# Altium integrated library NXP_60_26022015.IntLib: 1306 symbols (part 26 of 28)
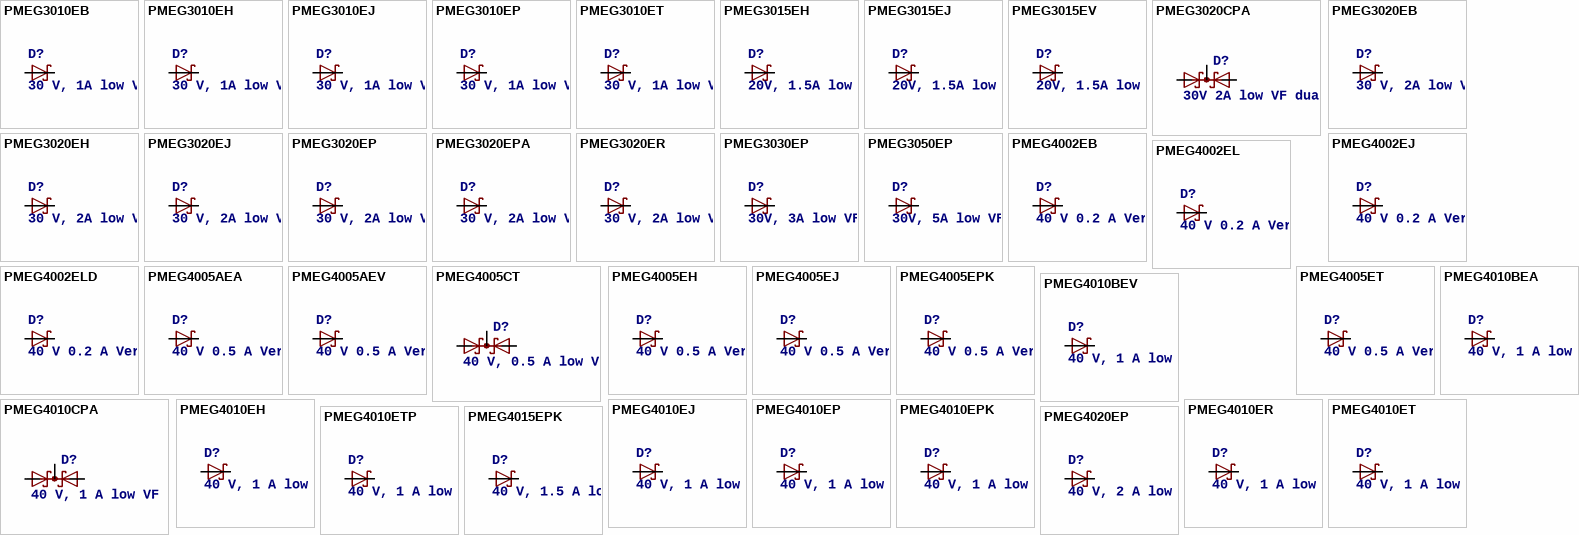
[diagram p210: symbols PMEG3010EB to PMEG4020EP]

## PMEG4002EB
designator D?, comment 40 V 0.2 A Very low VF MEGA Schottky barrier rectifier  Planar Maximum Efficiency General Application (MEGA) Schottky barrier rectifier with an integrated guard ring for stress protection, encapsulated in a SOD323 (SC-76) very small SMD plastic packag   AAL Eindhoven MK
footprint SOD523
pins: 1 K, 2 A

## PMEG4002EJ
designator D?, comment 40 V 0.2 A Very low VF MEGA Schottky barrier rectifier  Planar Maximum Efficiency General Application (MEGA) Schottky barrier rectifier with an integrated guard ring for stress protection, encapsulated in a SOD323 (SC-76) very small SMD plastic packag   AAL Eindhoven MK
footprint SOD323(F)
pins: 1 K, 2 A

## PMEG4002EL
designator D?, comment 40 V 0.2 A Very low VF MEGA Schottky barrier rectifier  Planar Maximum Efficiency General Application (MEGA) Schottky barrier rectifier with an integrated guard ring for stress protection, encapsulated in a SOD323 (SC-76) very small SMD plastic packag   AAL Eindhoven MK
footprint SOD882(T)
pins: 1 K, 2 A

## PMEG4002ELD
designator D?, comment 40 V 0.2 A Very low VF MEGA Schottky barrier rectifier  Planar Maximum Efficiency General Application (MEGA) Schottky barrier rectifier with an integrated guard ring for stress protection, encapsulated in a SOD323 (SC-76) very small SMD plastic packag   AAL Eindhoven MK
footprint SOD882D
pins: 1 K, 2 A

## PMEG4005AEA
designator D?, comment 40 V 0.5 A Very low VF MEGA Schottky barrier rectifier  Planar Maximum Efficiency General Application (MEGA) Schottky barrier rectifier with an integrated guard ring for stress protection, encapsulated in a SOD323 (SC-76) very small SMD plastic packag   AAL Eindhoven MK
footprint SOD323(F)
pins: 1 K, 2 A

## PMEG4005AEV
designator D?, comment 40 V 0.5 A Very low VF MEGA Schottky barrier rectifier  Planar Maximum Efficiency General Application (MEGA) Schottky barrier rectifier with an integrated guard ring for stress protection, encapsulated in a SOD323 (SC-76) very small SMD plastic packag   AAL Eindhoven MK
footprint SOT666
pins: 1 2 5 6 K, 3 4 A

## PMEG4005CT
designator D?, comment 40 V, 0.5 A low VF MEGA Schottky barrier rectifier  Planar Maximum Efficiency General Application (MEGA) Schottky barrier rectifier with an integrated guard ring for stress protection, encapsulated in a leadless ultra small SOD1608 (DFN1608D-2) Surface-Mounted Device (SMD) plastic package with visible and solderable side pads     AAL Eindhoven MK
footprint SOT23
pins: 1 A1, 2 A2, 3 K1K2

## PMEG4005EH
designator D?, comment 40 V 0.5 A Very low VF MEGA Schottky barrier rectifier  Planar Maximum Efficiency General Application (MEGA) Schottky barrier rectifier with an integrated guard ring for stress protection, encapsulated in a SOD323 (SC-76) very small SMD plastic packag   AAL Eindhoven MK
footprint SOD123F
pins: 1 K, 2 A

## PMEG4005EJ
designator D?, comment 40 V 0.5 A Very low VF MEGA Schottky barrier rectifier  Planar Maximum Efficiency General Application (MEGA) Schottky barrier rectifier with an integrated guard ring for stress protection, encapsulated in a SOD323 (SC-76) very small SMD plastic packag   AAL Eindhoven MK
footprint SOD323(F)
pins: 1 K, 2 A

## PMEG4005EPK
designator D?, comment 40 V 0.5 A Very low VF MEGA Schottky barrier rectifier  Planar Maximum Efficiency General Application (MEGA) Schottky barrier rectifier with an integrated guard ring for stress protection, encapsulated in a SOD323 (SC-76) very small SMD plastic packag   AAL Eindhoven MK
footprint SOD1608
pins: 1 K, 2 A

## PMEG4005ET
designator D?, comment 40 V 0.5 A Very low VF MEGA Schottky barrier rectifier  Planar Maximum Efficiency General Application (MEGA) Schottky barrier rectifier with an integrated guard ring for stress protection, encapsulated in a SOD323 (SC-76) very small SMD plastic packag   AAL Eindhoven MK
footprint SOT23
pins: 1 A, 3 K

## PMEG4010BEA
designator D?, comment 40 V, 1 A low VF MEGA Schottky barrier rectifier  Planar Maximum Efficiency General Application (MEGA) Schottky barrier rectifier with an integrated guard ring for stress protection.     AAL Eindhoven MK
footprint SOD323(F)
pins: 1 K, 2 A

## PMEG4010BEV
designator D?, comment 40 V, 1 A low VF MEGA Schottky barrier rectifier  Planar Maximum Efficiency General Application (MEGA) Schottky barrier rectifier with an integrated guard ring for stress protection.     AAL Eindhoven MK
footprint SOT666
pins: 1 2 5 6 K, 3 4 A

## PMEG4010CPA
designator D?, comment 40 V, 1 A low VF MEGA Schottky barrier rectifier  Planar Maximum Efficiency General Application (MEGA) Schottky barrier rectifier with an integrated guard ring for stress protection, encapsulated in a leadless ultra small SOD1608 (DFN1608D-2) Surface-Mounted Device (SMD) plastic package with visible and solderable side pads     AAL Eindhoven MK
footprint SOT1061
pins: 1 A1, 2 A2, 3 K1K2

## PMEG4010EH
designator D?, comment 40 V, 1 A low VF MEGA Schottky barrier rectifier  Planar Maximum Efficiency General Application (MEGA) Schottky barrier rectifier with an integrated guard ring for stress protection.     AAL Eindhoven MK
footprint SOD123F
pins: 1 K, 2 A

## PMEG4010EJ
designator D?, comment 40 V, 1 A low VF MEGA Schottky barrier rectifier  Planar Maximum Efficiency General Application (MEGA) Schottky barrier rectifier with an integrated guard ring for stress protection.     AAL Eindhoven MK
footprint SOD323(F)
pins: 1 K, 2 A

## PMEG4010EP
designator D?, comment 40 V, 1 A low VF MEGA Schottky barrier rectifier  Planar Maximum Efficiency General Application (MEGA) Schottky barrier rectifier with an integrated guard ring for stress protection.     AAL Eindhoven MK
footprint SOD128
pins: 1 K, 2 A

## PMEG4010EPK
designator D?, comment 40 V, 1 A low VF MEGA Schottky barrier rectifier  Planar Maximum Efficiency General Application (MEGA) Schottky barrier rectifier with an integrated guard ring for stress protection.     AAL Eindhoven MK
footprint SOD1608
pins: 1 K, 2 A

## PMEG4010ER
designator D?, comment 40 V, 1 A low VF MEGA Schottky barrier rectifier  Planar Maximum Efficiency General Application (MEGA) Schottky barrier rectifier with an integrated guard ring for stress protection.     AAL Eindhoven MK
footprint SOD123W
pins: 1 K, 2 A

## PMEG4010ET
designator D?, comment 40 V, 1 A low VF MEGA Schottky barrier rectifier  Planar Maximum Efficiency General Application (MEGA) Schottky barrier rectifier with an integrated guard ring for stress protection.     AAL Eindhoven MK
footprint SOT23
pins: 1 A, 3 K

## PMEG4010ETP
designator D?, comment 40 V, 1 A low VF MEGA Schottky barrier rectifier  Planar Maximum Efficiency General Application (MEGA) Schottky barrier rectifier with an integrated guard ring for stress protection.     AAL Eindhoven MK
footprint SOD128
pins: 1 K, 2 A

## PMEG4015EPK
designator D?, comment 40 V, 1.5 A low VF MEGA Schottky barrier rectifier  Planar Maximum Efficiency General Application (MEGA) Schottky barrier rectifier with an integrated guard ring for stress protection, encapsulated in a leadless ultra small SOD1608 (DFN1608D-2) Surface-Mounted Device (SMD) plastic package with visible and solderable side pads     AAL Eindhoven MK
footprint SOD1608
pins: 1 K, 2 A

## PMEG4020EP
designator D?, comment 40 V, 2 A low VF MEGA Schottky barrier rectifier  Planar Maximum Efficiency General Application (MEGA) Schottky barrier rectifier with an integrated guard ring for stress protection.     AAL Eindhoven MK
footprint SOD128
pins: 1 K, 2 A

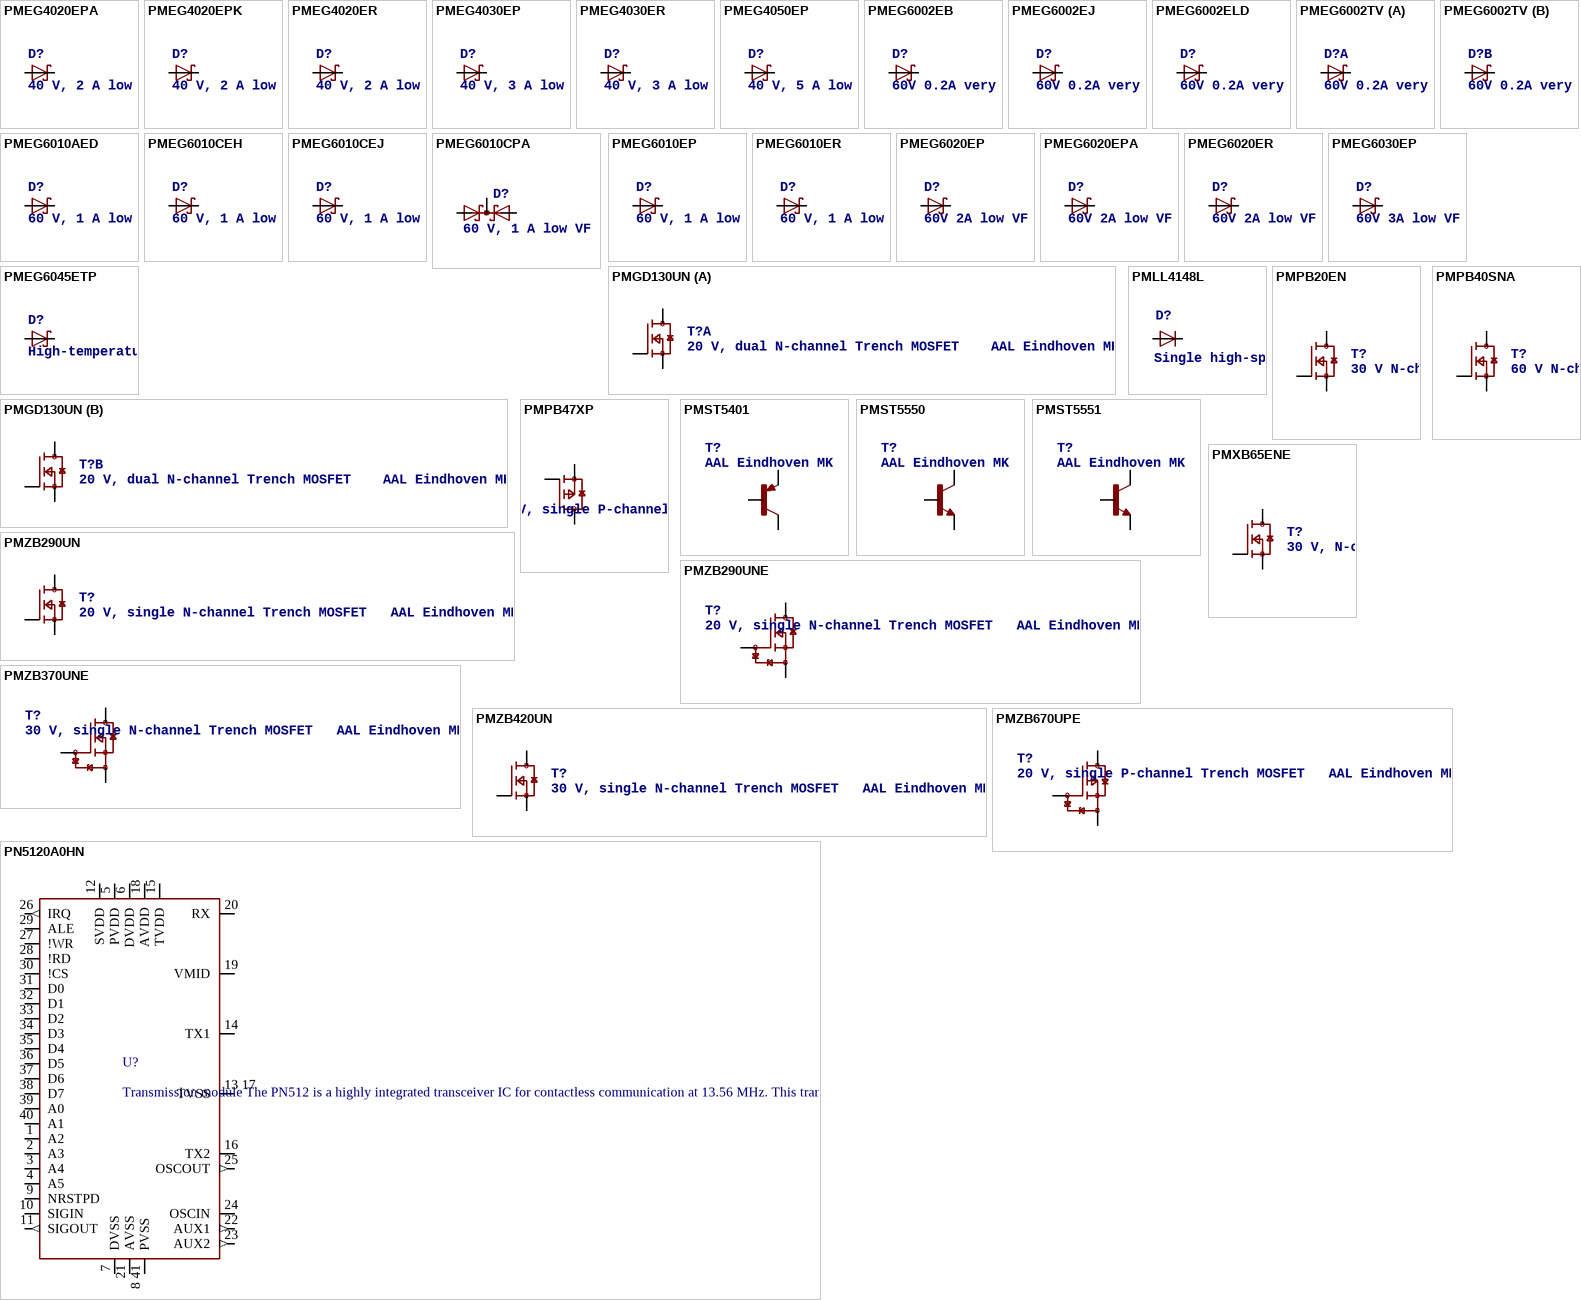
[diagram p171: symbols PMEG4020EPA to PN5120A0HN]

## PMEG4020EPA
designator D?, comment 40 V, 2 A low VF MEGA Schottky barrier rectifier  Planar Maximum Efficiency General Application (MEGA) Schottky barrier rectifier with an integrated guard ring for stress protection.     AAL Eindhoven MK
footprint SOT1061
pins: 1 2 A, 3 K

## PMEG4020EPK
designator D?, comment 40 V, 2 A low VF MEGA Schottky barrier rectifier  Planar Maximum Efficiency General Application (MEGA) Schottky barrier rectifier with an integrated guard ring for stress protection.     AAL Eindhoven MK
footprint SOD1608
pins: 1 K, 2 A

## PMEG4020ER
designator D?, comment 40 V, 2 A low VF MEGA Schottky barrier rectifier  Planar Maximum Efficiency General Application (MEGA) Schottky barrier rectifier with an integrated guard ring for stress protection.     AAL Eindhoven MK
footprint SOD123W
pins: 1 K, 2 A

## PMEG4030EP
designator D?, comment 40 V, 3 A low VF MEGA Schottky barrier rectifier  Planar Maximum Efficiency General Application (MEGA) Schottky barrier rectifier with an integrated guard ring for stress protection.     AAL Eindhoven MK
footprint SOD128
pins: 1 K, 2 A

## PMEG4030ER
designator D?, comment 40 V, 3 A low VF MEGA Schottky barrier rectifier  Planar Maximum Efficiency General Application (MEGA) Schottky barrier rectifier with an integrated guard ring for stress protection.     AAL Eindhoven MK
footprint SOD123W
pins: 1 K, 2 A

## PMEG4050EP
designator D?, comment 40 V, 5 A low VF MEGA Schottky barrier rectifier  Planar Maximum Efficiency General Application (MEGA) Schottky barrier rectifier with an integrated guard ring for stress protection.     AAL Eindhoven MK
footprint SOD128
pins: 1 K, 2 A

## PMEG6002EB
designator D?, comment 60V 0.2A very low VF MEGA Schottky barrier recti?ers Planar Maximum Ef?ciency General Application (MEGA) Schottky barrier recti?ers with an integrated guard ring for stress protection, encapsulated in ultra small and ?at lead Surface-Mounted Device (SMD) plastic packages.   AAL Eindhoven MK
footprint SOD523
pins: 1 K, 2 A

## PMEG6002EJ
designator D?, comment 60V 0.2A very low VF MEGA Schottky barrier recti?ers Planar Maximum Ef?ciency General Application (MEGA) Schottky barrier recti?ers with an integrated guard ring for stress protection, encapsulated in ultra small and ?at lead Surface-Mounted Device (SMD) plastic packages.   AAL Eindhoven MK
footprint SOD323(F)
pins: 1 K, 2 A

## PMEG6002ELD
designator D?, comment 60V 0.2A very low VF MEGA Schottky barrier recti?ers Planar Maximum Ef?ciency General Application (MEGA) Schottky barrier recti?ers with an integrated guard ring for stress protection, encapsulated in ultra small and ?at lead Surface-Mounted Device (SMD) plastic packages.   AAL Eindhoven MK
footprint SOD882D
pins: 1 K, 2 A

## PMEG6002TV
designator D?, comment 60V 0.2A very low VF MEGA Schottky barrier recti?ers Planar Maximum Ef?ciency General Application (MEGA) Schottky barrier recti?ers with an integrated guard ring for stress protection, encapsulated in ultra small and ?at lead Surface-Mounted Device (SMD) plastic packages.   AAL Eindhoven MK
footprint SOT666
part A pins: 1 A, 6 K
part B pins: 3 K, 4 A

## PMEG6010AED
designator D?, comment 60 V, 1 A low VF MEGA Schottky barrier rectifier  Planar Maximum Efficiency General Application (MEGA) Schottky barrier rectifier with an integrated guard ring for stress protection, encapsulated in a leadless ultra small SOD1608 (DFN1608D-2) Surface-Mounted Device (SMD) plastic package with visible and solderable side pads     AAL Eindhoven MK
footprint SOT457
pins: 1 2 5 6 K, 3 4 A

## PMEG6010CEH
designator D?, comment 60 V, 1 A low VF MEGA Schottky barrier rectifier  Planar Maximum Efficiency General Application (MEGA) Schottky barrier rectifier with an integrated guard ring for stress protection, encapsulated in a leadless ultra small SOD1608 (DFN1608D-2) Surface-Mounted Device (SMD) plastic package with visible and solderable side pads     AAL Eindhoven MK
footprint SOD123F
pins: 1 K, 2 A

## PMEG6010CEJ
designator D?, comment 60 V, 1 A low VF MEGA Schottky barrier rectifier  Planar Maximum Efficiency General Application (MEGA) Schottky barrier rectifier with an integrated guard ring for stress protection, encapsulated in a leadless ultra small SOD1608 (DFN1608D-2) Surface-Mounted Device (SMD) plastic package with visible and solderable side pads     AAL Eindhoven MK
footprint SOD323(F)
pins: 1 K, 2 A

## PMEG6010CPA
designator D?, comment 60 V, 1 A low VF MEGA Schottky barrier rectifier  Planar Maximum Efficiency General Application (MEGA) Schottky barrier rectifier with an integrated guard ring for stress protection, encapsulated in a leadless ultra small SOD1608 (DFN1608D-2) Surface-Mounted Device (SMD) plastic package with visible and solderable side pads     AAL Eindhoven MK
footprint SOT1061
pins: 1 A1, 2 A2, 3 K1K2

## PMEG6010EP
designator D?, comment 60 V, 1 A low VF MEGA Schottky barrier rectifier  Planar Maximum Efficiency General Application (MEGA) Schottky barrier rectifier with an integrated guard ring for stress protection, encapsulated in a leadless ultra small SOD1608 (DFN1608D-2) Surface-Mounted Device (SMD) plastic package with visible and solderable side pads     AAL Eindhoven MK
footprint SOD128
pins: 1 K, 2 A

## PMEG6010ER
designator D?, comment 60 V, 1 A low VF MEGA Schottky barrier rectifier  Planar Maximum Efficiency General Application (MEGA) Schottky barrier rectifier with an integrated guard ring for stress protection, encapsulated in a leadless ultra small SOD1608 (DFN1608D-2) Surface-Mounted Device (SMD) plastic package with visible and solderable side pads     AAL Eindhoven MK
footprint SOD123W
pins: 1 K, 2 A

## PMEG6020EP
designator D?, comment 60V 2A low VF dual MEGA Schottky barrier rectifier  Planar Maximum Efficiency General Application (MEGA) Schottky barrier rectifier in common cathode configuration with an integrated guard ring for stress protection, encapsulated in a SOT1061 leadless small Surface-Mounted Device (SMD) plastic package with medium power capability.    AAL Eindhoven MK
footprint SOD128
pins: 1 K, 2 A

## PMEG6020EPA
designator D?, comment 60V 2A low VF dual MEGA Schottky barrier rectifier  Planar Maximum Efficiency General Application (MEGA) Schottky barrier rectifier in common cathode configuration with an integrated guard ring for stress protection, encapsulated in a SOT1061 leadless small Surface-Mounted Device (SMD) plastic package with medium power capability.    AAL Eindhoven MK
footprint SOT1061
pins: 1 2 A, 3 K

## PMEG6020ER
designator D?, comment 60V 2A low VF dual MEGA Schottky barrier rectifier  Planar Maximum Efficiency General Application (MEGA) Schottky barrier rectifier in common cathode configuration with an integrated guard ring for stress protection, encapsulated in a SOT1061 leadless small Surface-Mounted Device (SMD) plastic package with medium power capability.    AAL Eindhoven MK
footprint SOD123W
pins: 1 K, 2 A

## PMEG6030EP
designator D?, comment 60V 3A low VF dual MEGA Schottky barrier rectifier  Planar Maximum Efficiency General Application (MEGA) Schottky barrier rectifier in common cathode configuration with an integrated guard ring for stress protection, encapsulated in a SOT1061 leadless small Surface-Mounted Device (SMD) plastic package with medium power capability.    AAL Eindhoven MK
footprint SOD128
pins: 1 K, 2 A

## PMEG6045ETP
designator D?, comment High-temperature 60 V, 4.5 A Schottky barrier rectifier Planar Maximum Efficiency General Application (MEGA) Schottky barrier rectifier with an integrated guard ring for stress protection, encapsulated in a SOD128 small and flat lead Surface-Mounted Device (SMD) plastic package.    AAL Eindhoven MK
footprint SOD128
pins: 1 K, 2 A

## PMGD130UN
designator T?, comment 20 V, dual N-channel Trench MOSFET    AAL Eindhoven MK
footprint SOT363
part A pins: 1 S, 2 G, 6 D
part B pins: 3 D, 4 S, 5 G

## PMLL4148L
designator D?, comment Single high-speed switching diodes, fabricated in planar technology, and encapsulated in small hermetically sealed glass SOD80C Surface-Mounted Device (SMD) packages.    AAL Eindhoven MK
FARNELL: 1097176
footprint SOD80C
pins: 1 K, 2 A

## PMPB20EN
designator T?, comment 30 V N-channel Trench MOSFET N-channel enhancement mode Field-Effect Transistor (FET) in a leadless medium power DFN2020MD-6 (SOT1220) Surface-Mounted Device (SMD) plastic package using Trench MOSFET technology.    AAL Eindhoven MK
footprint SOT1220
pins: 1 2 5 6 7 D, 3 G, 4 8 S

## PMPB40SNA
designator T?, comment 60 V N-channel Trench MOSFET N-channel enhancement mode Field-Effect Transistor (FET) in a leadless medium power DFN2020MD-6 (SOT1220) Surface-Mounted Device (SMD) plastic package using Trench MOSFET technology.    AAL Eindhoven MK
footprint SOT1220
pins: 1 2 5 6 7 D, 3 G, 4 8 S

## PMPB47XP
designator T?, comment 30 V, single P-channel Trench MOSFET P-channel enhancement mode Field-Effect Transistor (FET) in a leadless medium power DFN2020MD-6 (SOT1220) Surface-Mounted Device (SMD) plastic package using Trench MOSFET technology.    AAL Eindhoven MK
footprint SOT1220
pins: 1 2 5 6 7 D, 3 G, 4 8 S

## PMST5401
designator T?, comment AAL Eindhoven MK
footprint SOT323
pins: 1 B, 2 E, 3 C

## PMST5550
designator T?, comment AAL Eindhoven MK
footprint SOT323
pins: 1 B, 2 E, 3 C

## PMST5551
designator T?, comment AAL Eindhoven MK
footprint SOT323
pins: 1 B, 2 E, 3 C

## PMXB65ENE
designator T?, comment 30 V, N-channel Trench MOSFET N-channel enhancement mode Field-Effect Transistor (FET) in a leadless ultra small DFN1010D-3 (SOT1215) Surface-Mounted Device (SMD) plastic package using Trench MOSFET technology.    AAL Eindhoven MK
footprint SOT1215
pins: 1 G, 2 S, 3 D

## PMZB290UN
designator T?, comment 20 V, single N-channel Trench MOSFET   AAL Eindhoven MK
footprint SOT883(B)
pins: 1 G, 2 S, 3 D

## PMZB290UNE
designator T?, comment 20 V, single N-channel Trench MOSFET   AAL Eindhoven MK
footprint SOT883(B)
pins: 1 G, 2 S, 3 D

## PMZB370UNE
designator T?, comment 30 V, single N-channel Trench MOSFET   AAL Eindhoven MK
footprint SOT883(B)
pins: 1 G, 2 S, 3 D

## PMZB420UN
designator T?, comment 30 V, single N-channel Trench MOSFET   AAL Eindhoven MK
footprint SOT883(B)
pins: 1 G, 2 S, 3 D

## PMZB670UPE
designator T?, comment 20 V, single P-channel Trench MOSFET   AAL Eindhoven MK
footprint SOT883(B)
pins: 1 G, 2 S, 3 D

## PN5120A0HN
designator U?, comment Transmission module The PN512 is a highly integrated transceiver IC for contactless communication at 13.56 MHz. This transceiver IC utilizes an outstanding modulation and demodulation concept completely integrated for different kinds of contactless communication methods and protocols at 13.56 MHz.     AAL Eindhoven MK
footprint SOT618-1
pins: 1 A2, 2 A3, 3 A4, 4 A5, 5 PVDD (power), 6 DVDD (power), 7 DVSS (power), 8 41 PVSS (power), 9 NRSTPD, 10 SIGIN, 11 SIGOUT (out), 12 SVDD (power), 13 17 TVSS, 14 TX1, 15 TVDD (power), 16 TX2, 18 AVDD (power), 19 VMID, 20 RX, 21 AVSS (power), 22 AUX1 (out), 23 AUX2 (out), 24 OSCIN, 25 OSCOUT (out), 26 IRQ (out), 27 !WR, 28 !RD, 29 ALE, 30 !CS, 31 D0, 32 D1, 33 D2, 34 D3, 35 D4, 36 D5, 37 D6, 38 D7, 39 A0, 40 A1

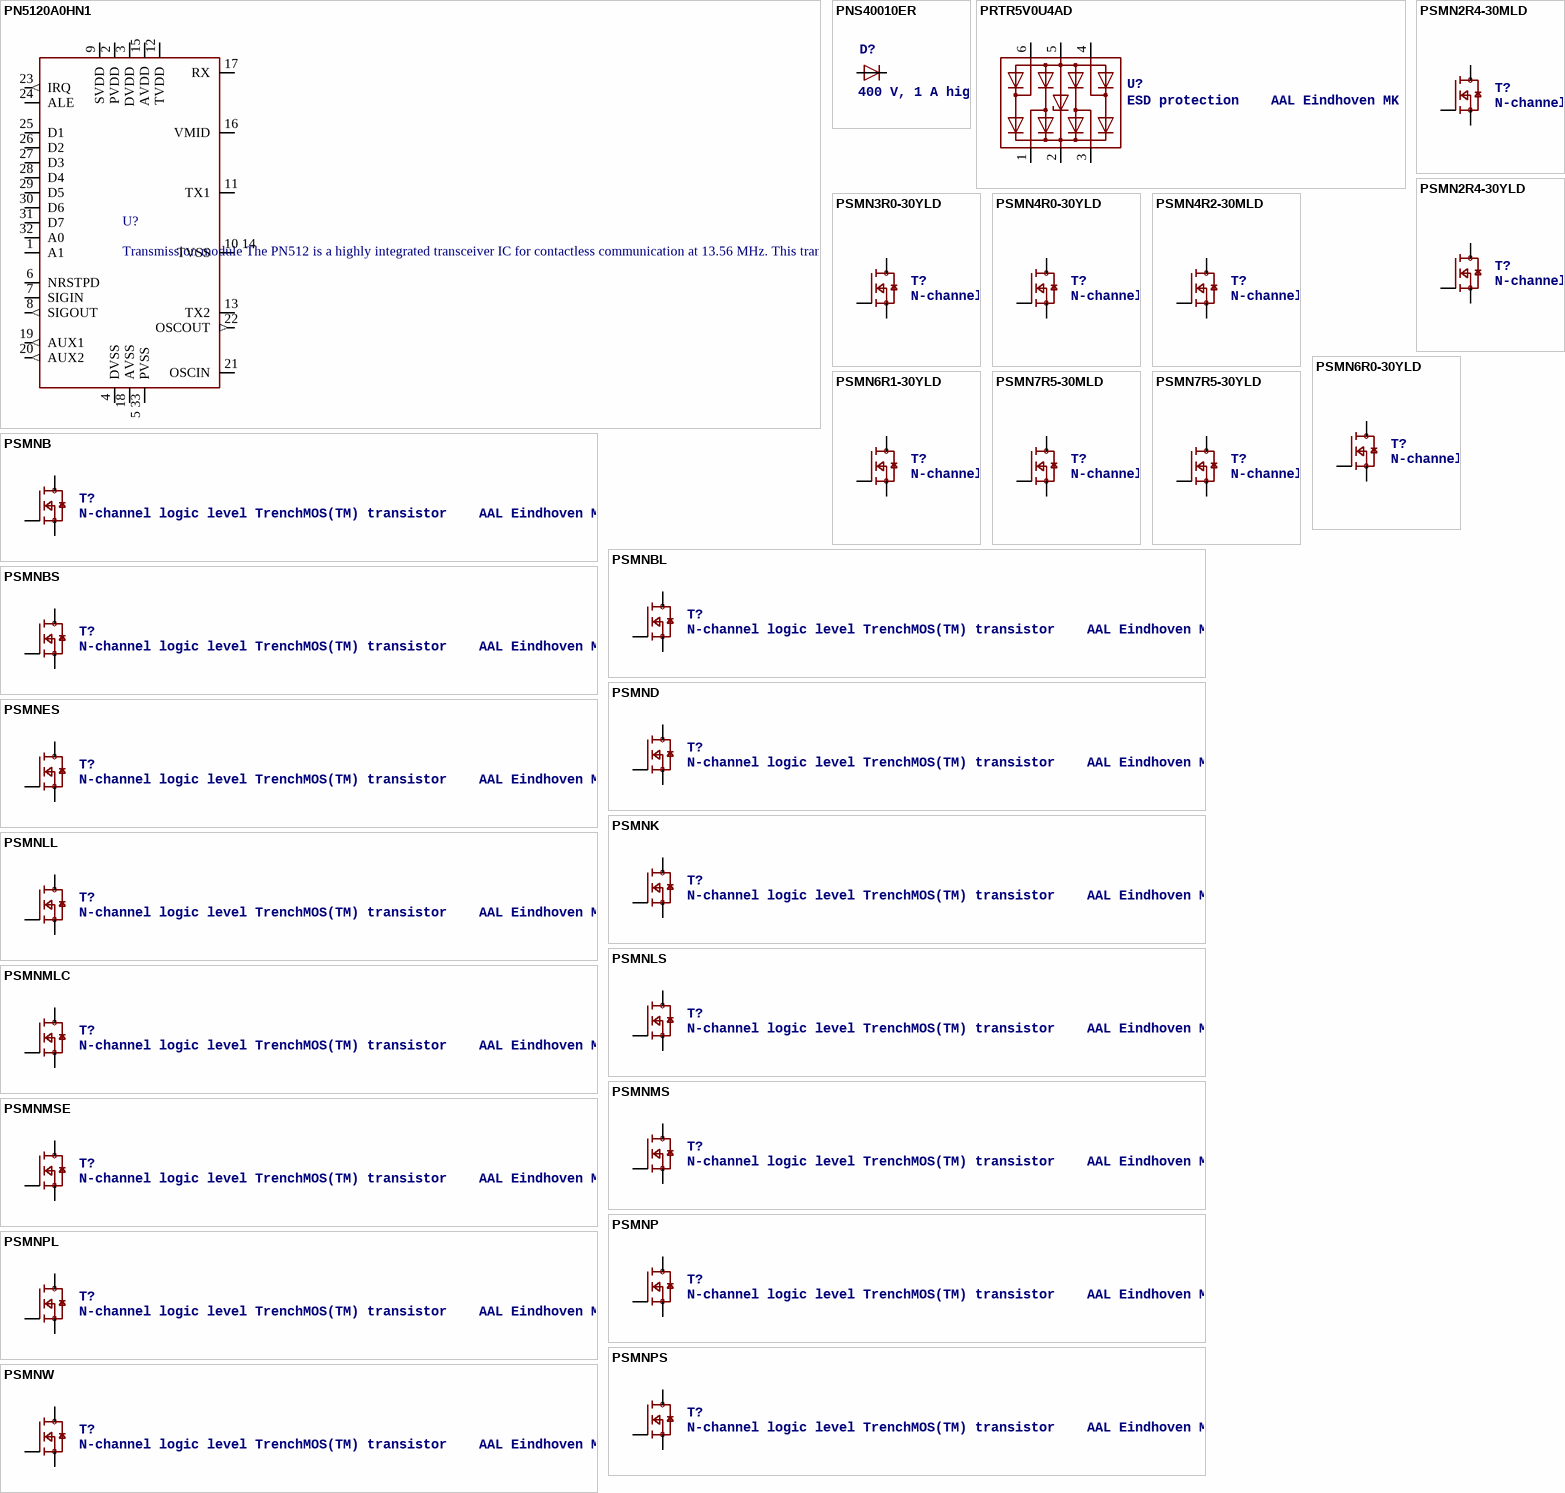
[diagram p172: symbols PN5120A0HN1 to PSMNW]

## PN5120A0HN1
designator U?, comment Transmission module The PN512 is a highly integrated transceiver IC for contactless communication at 13.56 MHz. This transceiver IC utilizes an outstanding modulation and demodulation concept completely integrated for different kinds of contactless communication methods and protocols at 13.56 MHz.     AAL Eindhoven MK
footprint SOT617-1
pins: 1 A1, 2 PVDD (power), 3 DVDD (power), 4 DVSS (power), 5 33 PVSS (power), 6 NRSTPD, 7 SIGIN, 8 SIGOUT (out), 9 SVDD (power), 10 14 TVSS, 11 TX1, 12 TVDD (power), 13 TX2, 15 AVDD (power), 16 VMID, 17 RX, 18 AVSS (power), 19 AUX1 (out), 20 AUX2 (out), 21 OSCIN, 22 OSCOUT (out), 23 IRQ (out), 24 ALE, 25 D1, 26 D2, 27 D3, 28 D4, 29 D5, 30 D6, 31 D7, 32 A0

## PNS40010ER
designator D?, comment 400 V, 1 A high power density, standard switching time PN-rectifier High power density, standard switching time PN-rectifier with high-efficiency planar technology, encapsulated in a small and flat lead SOD123W Surface-Mounted Device (SMD) plastic package.    AAL Eindhoven MK
footprint SOD123W
pins: 1 K, 2 A

## PRTR5V0U4AD
designator U?, comment ESD protection    AAL Eindhoven MK
FARNELL: 1757868
footprint SOT457
pins: 1 ESD1, 2 VCC (power), 3 ESD2, 4 ESD3, 5 GND (power), 6 ESD4

## PSMN2R4-30MLD
designator T?, comment N-channel 30 V, 2.4 mΩ logic level MOSFET in LFPAK33 using NextPowerS3 Technology Logic level gate drive N-channel enhancement mode MOSFET in LFPAK33 and LFPAK56 package. NextPowerS3 portfolio utilising NXP’s unique “SchottkyPlus” technology delivers high efficiency, low spiking performance usually associated with MOSFETs with an integrated Schottky or Schottky-like diode but without problematic high leakage current. NextPowerS3 is particularly suited to high efficiency applications at high switching frequencies.    AAL Eindhoven MK
footprint SOT1210
pins: 1 2 3 S, 4 G, MB@1 MB@2 MB@3 MB@4 D

## PSMN2R4-30YLD
designator T?, comment N-channel 30 V, 2.4 mΩ logic level MOSFET in LFPAK33 using NextPowerS3 Technology Logic level gate drive N-channel enhancement mode MOSFET in LFPAK33 and LFPAK56 package. NextPowerS3 portfolio utilising NXP’s unique “SchottkyPlus” technology delivers high efficiency, low spiking performance usually associated with MOSFETs with an integrated Schottky or Schottky-like diode but without problematic high leakage current. NextPowerS3 is particularly suited to high efficiency applications at high switching frequencies.    AAL Eindhoven MK
footprint SOT669
pins: 1 2 3 S, 4 G, MB D

## PSMN3R0-30YLD
designator T?, comment N-channel 30 V, 3.0 mΩ logic level MOSFET in LFPAK56 using NextPowerS3 Technology Logic level gate drive N-channel enhancement mode MOSFET in LFPAK56 package. NextPowerS3 portfolio utilising NXP’s unique “SchottkyPlus” technology delivers high efficiency, low spiking performance usually associated with MOSFETs with an integrated Schottky or Schottky-like diode but without problematic high leakage current. NextPowerS3 is particularly suited to high efficiency applications at high switching frequencies.    AAL Eindhoven MK
footprint SOT669
pins: 1 2 3 S, 4 G, MB D

## PSMN4R0-30YLD
designator T?, comment N-channel 30 V, 4.0 mΩ logic level MOSFET in LFPAK56 using NextPowerS3 Technology Logic level gate drive N-channel enhancement mode MOSFET in LFPAK56 package. NextPowerS3 portfolio utilising NXP’s unique “SchottkyPlus” technology delivers high efficiency, low spiking performance usually associated with MOSFETs with an integrated Schottky or Schottky-like diode but without problematic high leakage current. NextPowerS3 is particularly suited to high efficiency applications at high switching frequencies.    AAL Eindhoven MK
footprint SOT669
pins: 1 2 3 S, 4 G, MB D

## PSMN4R2-30MLD
designator T?, comment N-channel 30 V, 4.2 mΩ logic level MOSFET in LFPAK33 using NextPowerS3 Technology Logic level gate drive N-channel enhancement mode MOSFET in LFPAK33 package. NextPowerS3 portfolio utilising NXP’s unique “SchottkyPlus” technology delivers high efficiency, low spiking performance usually associated with MOSFETs with an integrated Schottky or Schottky-like diode but without problematic high leakage current. NextPowerS3 is particularly suited to high efficiency applications at high switching frequencies.    AAL Eindhoven MK
footprint SOT1210
pins: 1 2 3 S, 4 G, MB@1 MB@2 MB@3 MB@4 D

## PSMN6R0-30YLD
designator T?, comment N-channel 30 V, 6.0 mΩ logic level MOSFET in LFPAK56 using NextPowerS3 Technology Logic level gate drive N-channel enhancement mode MOSFET in LFPAK56 package. NextPowerS3 portfolio utilising NXP’s unique “SchottkyPlus” technology delivers high efficiency, low spiking performance usually associated with MOSFETs with an integrated Schottky or Schottky-like diode but without problematic high leakage current. NextPowerS3 is particularly suited to high efficiency applications at high switching frequencies.    AAL Eindhoven MK
footprint SOT669
pins: 1 2 3 S, 4 G, MB D

## PSMN6R1-30YLD
designator T?, comment N-channel 30 V, 6.1 mΩ logic level MOSFET in LFPAK56 using NextPowerS3 Technology Logic level gate drive N-channel enhancement mode MOSFET in LFPAK56 package. NextPowerS3 portfolio utilising NXP’s unique “SchottkyPlus” technology delivers high efficiency, low spiking performance usually associated with MOSFETs with an integrated Schottky or Schottky-like diode but without problematic high leakage current. NextPowerS3 is particularly suited to high efficiency applications at high switching frequencies.    AAL Eindhoven MK
footprint SOT669
pins: 1 2 3 S, 4 G, MB D

## PSMN7R5-30MLD
designator T?, comment N-channel 30 V, 7.5 mΩ logic level MOSFET in LFPAK33 using NextPowerS3 Technology Logic level gate drive N-channel enhancement mode MOSFET in LFPAK33 and LFPAK56 package. NextPowerS3 portfolio utilising NXP’s unique “SchottkyPlus” technology delivers high efficiency, low spiking performance usually associated with MOSFETs with an integrated Schottky or Schottky-like diode but without problematic high leakage current. NextPowerS3 is particularly suited to high efficiency applications at high switching frequencies.    AAL Eindhoven MK
footprint SOT1210
pins: 1 2 3 S, 4 G, MB@1 MB@2 MB@3 MB@4 D

## PSMN7R5-30YLD
designator T?, comment N-channel 30 V, 7.5 mΩ logic level MOSFET in LFPAK33 using NextPowerS3 Technology Logic level gate drive N-channel enhancement mode MOSFET in LFPAK33 and LFPAK56 package. NextPowerS3 portfolio utilising NXP’s unique “SchottkyPlus” technology delivers high efficiency, low spiking performance usually associated with MOSFETs with an integrated Schottky or Schottky-like diode but without problematic high leakage current. NextPowerS3 is particularly suited to high efficiency applications at high switching frequencies.    AAL Eindhoven MK
footprint SOT669
pins: 1 2 3 S, 4 G, MB D

## PSMNB
designator T?, comment N-channel logic level TrenchMOS(TM) transistor    AAL Eindhoven MK
footprint SOT404
pins: 1 G, 3 S, MB D

## PSMNBL
designator T?, comment N-channel logic level TrenchMOS(TM) transistor    AAL Eindhoven MK
footprint SOT404
pins: 1 G, 3 S, MB D

## PSMNBS
designator T?, comment N-channel logic level TrenchMOS(TM) transistor    AAL Eindhoven MK
footprint SOT404
pins: 1 G, 3 S, MB D

## PSMND
designator T?, comment N-channel logic level TrenchMOS(TM) transistor    AAL Eindhoven MK
footprint SOT428
pins: 1 G, 3 S, MB D

## PSMNES
designator T?, comment N-channel logic level TrenchMOS(TM) transistor    AAL Eindhoven MK
footprint SOT226
pins: 1 G, 2 D, 3 S

## PSMNK
designator T?, comment N-channel logic level TrenchMOS(TM) transistor    AAL Eindhoven MK
footprint SOT96-1
pins: 1 2 3 S, 4 G, 5 6 7 8 D

## PSMNLL
designator T?, comment N-channel logic level TrenchMOS(TM) transistor    AAL Eindhoven MK
footprint SOT873-1
pins: 1 2 3 S, 4 G, 5 6 7 8 D

## PSMNLS
designator T?, comment N-channel logic level TrenchMOS(TM) transistor    AAL Eindhoven MK
footprint SOT873-1
pins: 1 2 3 S, 4 G, 5 6 7 8 D

## PSMNMLC
designator T?, comment N-channel logic level TrenchMOS(TM) transistor    AAL Eindhoven MK
LOGIC_LEVEL: 13 mOhm; VOLTAGE: 30V; LOGIC_LEVEL: 2.8 mOhm; VOLTAGE: 25V; LOGIC_LEVEL: 2.9 mOhm; LOGIC_LEVEL: 3.0 mOhm; LOGIC_LEVEL: 3.9 mOhm; LOGIC_LEVEL: 4.4 mOhm; LOGIC_LEVEL: 7.0 mOhm; LOGIC_LEVEL: 9.0 mOhm; LOGIC_LEVEL: 9.8 mOhm
footprint SOT1210
pins: 1 2 3 S, 4 G, MB@1 MB@2 MB@3 MB@4 D

## PSMNMS
designator T?, comment N-channel logic level TrenchMOS(TM) transistor    AAL Eindhoven MK
footprint SOT1210
pins: 1 2 3 S, 4 G, MB@1 MB@2 MB@3 MB@4 D

## PSMNMSE
designator T?, comment N-channel logic level TrenchMOS(TM) transistor    AAL Eindhoven MK
footprint SOT1210
pins: 1 2 3 S, 4 G, MB@1 MB@2 MB@3 MB@4 D

## PSMNP
designator T?, comment N-channel logic level TrenchMOS(TM) transistor    AAL Eindhoven MK
footprint SOT78
pins: 1 G, 2 D, 3 S

## PSMNPL
designator T?, comment N-channel logic level TrenchMOS(TM) transistor    AAL Eindhoven MK
footprint SOT78
pins: 1 G, 2 D, 3 S

## PSMNPS
designator T?, comment N-channel logic level TrenchMOS(TM) transistor    AAL Eindhoven MK
footprint SOT78
pins: 1 G, 2 D, 3 S

## PSMNW
designator T?, comment N-channel logic level TrenchMOS(TM) transistor    AAL Eindhoven MK
footprint SOT429
pins: 1 G, 2 D, 3 S

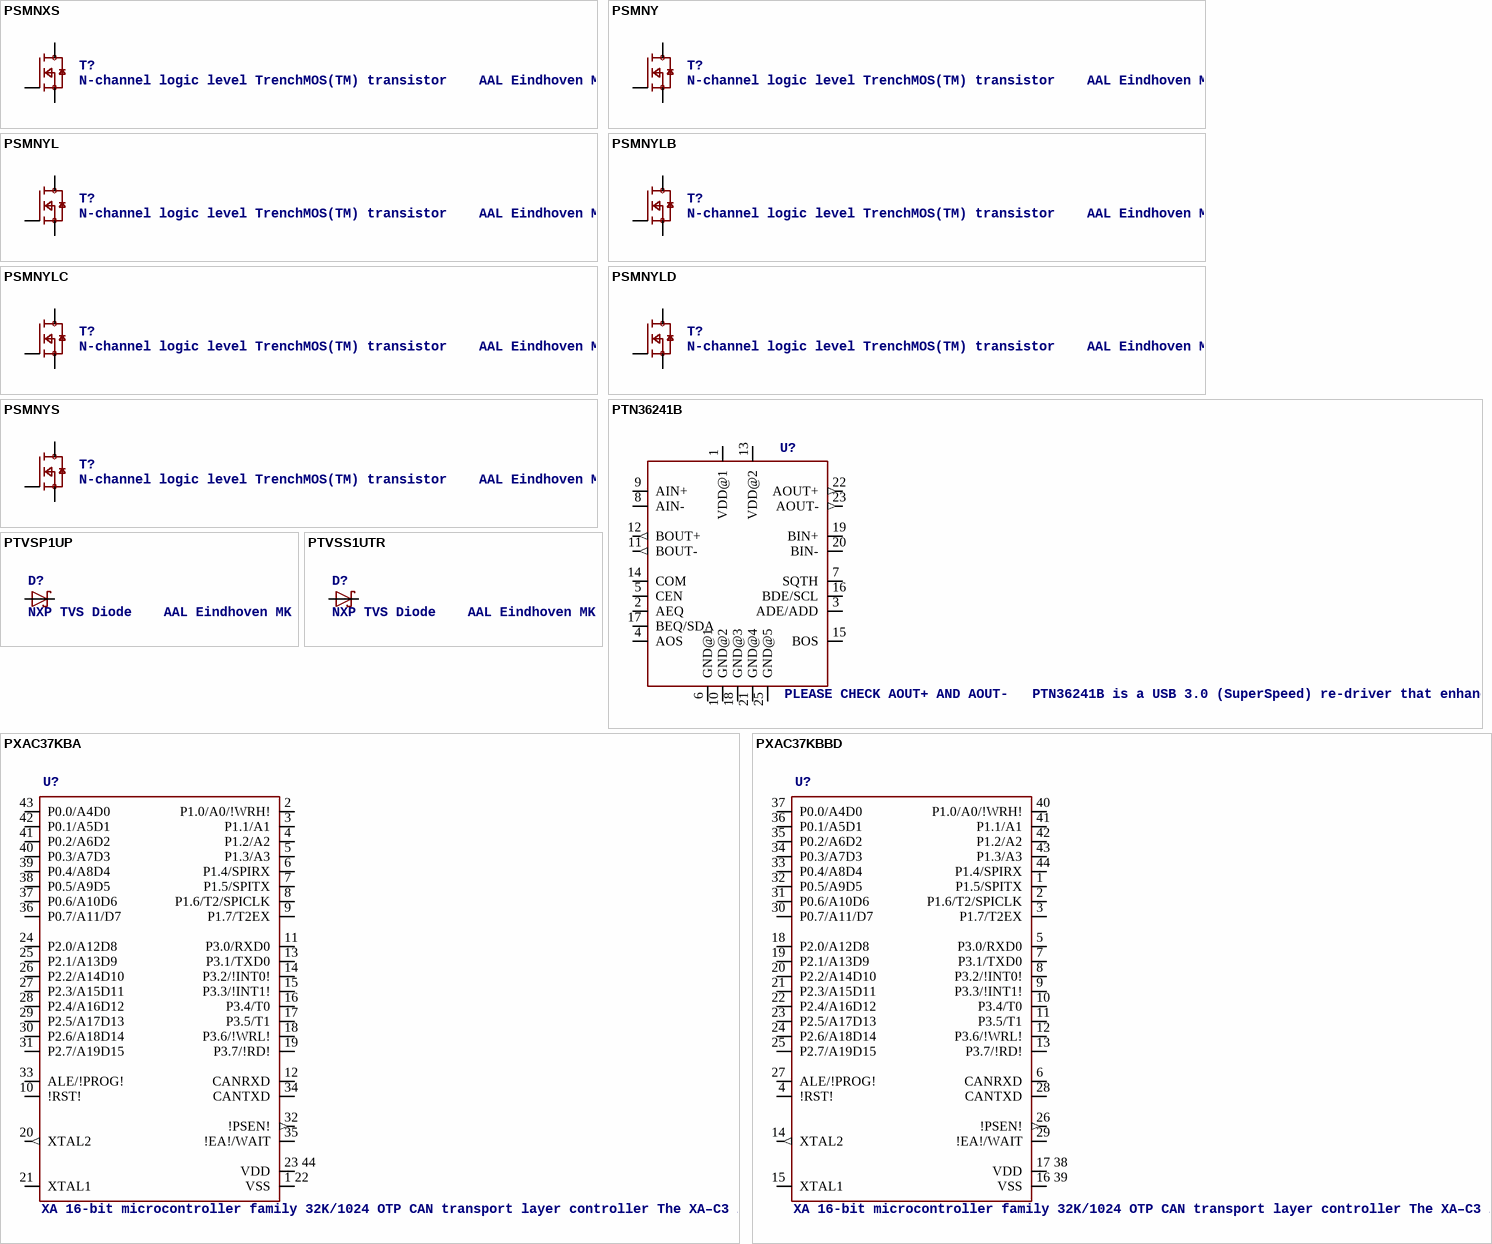
[diagram p173: symbols PSMNXS to PXAC37KBBD]

## PSMNXS
designator T?, comment N-channel logic level TrenchMOS(TM) transistor    AAL Eindhoven MK
footprint SOT186A
pins: 1 G, 2 D, 3 S

## PSMNY
designator T?, comment N-channel logic level TrenchMOS(TM) transistor    AAL Eindhoven MK
footprint SOT669
pins: 1 2 3 S, 4 G, MB D

## PSMNYL
designator T?, comment N-channel logic level TrenchMOS(TM) transistor    AAL Eindhoven MK
footprint SOT1023
pins: 1 2 3 S, 4 G, MB D

## PSMNYLB
designator T?, comment N-channel logic level TrenchMOS(TM) transistor    AAL Eindhoven MK
footprint SOT669
pins: 1 2 3 S, 4 G, MB D

## PSMNYLC
designator T?, comment N-channel logic level TrenchMOS(TM) transistor    AAL Eindhoven MK
footprint SOT669
pins: 1 2 3 S, 4 G, MB D

## PSMNYLD
designator T?, comment N-channel logic level TrenchMOS(TM) transistor    AAL Eindhoven MK
footprint SOT669
pins: 1 2 3 S, 4 G, MB D

## PSMNYS
designator T?, comment N-channel logic level TrenchMOS(TM) transistor    AAL Eindhoven MK
footprint SOT669
pins: 1 2 3 S, 4 G, MB D

## PTN36241B
designator U?, comment PLEASE CHECK AOUT+ AND AOUT-   PTN36241B is a USB 3.0 (SuperSpeed) re-driver that enhances signal quality by performing receive equalization on the deteriorated input signal followed by transmit de-emphasis maximizing system link performance. With its superior differential signal conditioning and enhancement capability, the device delivers significant flexibility and performance scaling for various systems with different PCB trace and cable channel conditions and still benefit from optimum power consumption. PTN36241B is a dual-channel (channel A and channel B) device that supports data signaling rate of 5 Gbit/s through each channel. PTN36241B is flexibly powered from 3.3 V and is available in HVQFN24 4 mm × 4 mm package with 0.5 mm pitch.    AAL Eindhoven MK
footprint SOT616-1
pins: 1 VDD@1 (power), 2 AEQ, 3 ADE/ADD, 4 AOS, 5 CEN, 6 GND@1 (power), 7 SQTH, 8 AIN-, 9 AIN+, 10 GND@2 (power), 11 BOUT- (out), 12 BOUT+ (out), 13 VDD@2 (power), 14 COM, 15 BOS, 16 BDE/SCL, 17 BEQ/SDA, 18 GND@3 (power), 19 BIN+, 20 BIN-, 21 GND@4 (power), 22 AOUT+ (out), 23 AOUT- (out), 25 GND@5 (power)

## PTVSP1UP
designator D?, comment NXP TVS Diode    AAL Eindhoven MK
CLAMPING: 17V; RSV: 10V; CLAMPING: 18.2; RSV: 11V; CLAMPING: 19.9; RSV: 12V; CLAMPING: 21.5V; RSV: 13V; CLAMPING: 23.2V; RSV: 14V; CLAMPING: 24.4V; RSV: 15V; CLAMPING: 26V; RSV: 16V; CLAMPING: 27.6V; CLAMPING: 29.2V; RSV: 18V; CLAMPING: 32.4V; RSV: 20V; CLAMPING: 35.5V; RSV: 22V; CLAMPING: 38.9V; RSV: 24V; CLAMPING: 42.1V; CLAMPING: 45.4V; RSV: 28V; CLAMPING: 48.4V; RSV: 30V; CLAMPING: 53.3V; RSV: 33V; CLAMPING: 58.1V; RSV: 36V; CLAMPING: 8V; RSV: 3.3V; CLAMPING: 64.6V; RSV: 40V; CLAMPING: 69.4V; RSV: 43V; CLAMPING: 72.7V; RSV: 45V; CLAMPING: 77.4V; RSV: 48V; CLAMPING: 82.4V; RSV: 51V; CLAMPING: 87.1V; RSV: 54V; CLAMPING: 93.6V; RSV: 58V; CLAMPING: 9.2V; RSV: 5V; CLAMPING: 96.8V; RSV: 60V; CLAMPING: 103V; RSV: 64V; CLAMPING: 10.3V; RSV: 6V; CLAMPING: 11.2V; RSV: 6.5V; RSV: 7V; CLAMPING: 12.9V; RSV: 7.5V; CLAMPING: 13.6V; CLAMPING: 14.4V; RSV: 8V5; CLAMPING: 15.4V; RSV: 9V; RSV: 17V; RSV: 26V; CLAMPING: 12V; RSV: 8V
footprint SOD128
pins: 1 K, 2 A

## PTVSS1UTR
designator D?, comment NXP TVS Diode    AAL Eindhoven MK
CLAMPING: 17V; RSV: 10V; CLAMPING: 18.2; RSV: 11V; CLAMPING: 19.9; RSV: 12V; CLAMPING: 21.5V; RSV: 13V; CLAMPING: 23.2V; RSV: 14V; CLAMPING: 24.4V; RSV: 15V; CLAMPING: 26V; RSV: 16V; CLAMPING: 27.6V; CLAMPING: 29.2V; RSV: 18V; CLAMPING: 32.4V; RSV: 20V; CLAMPING: 35.5V; RSV: 22V; CLAMPING: 38.9V; RSV: 24V; CLAMPING: 42.1V; CLAMPING: 45.4V; RSV: 28V; CLAMPING: 48.4V; RSV: 30V; CLAMPING: 53.3V; RSV: 33V; CLAMPING: 58.1V; RSV: 36V; CLAMPING: 8V; RSV: 3.3V; CLAMPING: 64.6V; RSV: 40V; CLAMPING: 69.4V; RSV: 43V; CLAMPING: 72.7V; RSV: 45V; CLAMPING: 77.4V; RSV: 48V; CLAMPING: 82.4V; RSV: 51V; CLAMPING: 87.1V; RSV: 54V; CLAMPING: 93.6V; RSV: 58V; CLAMPING: 9.2V; RSV: 5V; CLAMPING: 96.8V; RSV: 60V; CLAMPING: 103V; RSV: 64V; CLAMPING: 10.3V; RSV: 6V; CLAMPING: 11.2V; RSV: 6.5V; RSV: 7V; CLAMPING: 12.9V; RSV: 7.5V; CLAMPING: 13.6V; CLAMPING: 14.4V; RSV: 8V5; CLAMPING: 15.4V; RSV: 9V; RSV: 17V; RSV: 26V; CLAMPING: 12V; RSV: 8V
footprint SOD123W
pins: 1 K, 2 A

## PXAC37KBA
designator U?, comment XA 16-bit microcontroller family 32K/1024 OTP CAN transport layer controller The XA–C3 is a member of the Philips XA (eXtended Architecture) family of high–performance 16–bit single–chip microcontrollers. The XA–C3 combines an array of standard  peripherals together with a PeliCAN CAN 2.0B engine and unique ”Message Management” hardware to provide integrated support for most CAN Transport Layer (CTL) protocols such as DeviceNet, CANopen and OSEK. For additional details, refer to the XA-C3 Overview on page 35.    AAL Eindhoven MK
footprint SOT187-2
pins: 1 22 VSS, 2 P1.0/A0/!WRH!, 3 P1.1/A1, 4 P1.2/A2, 5 P1.3/A3, 6 P1.4/SPIRX, 7 P1.5/SPITX, 8 P1.6/T2/SPICLK, 9 P1.7/T2EX, 10 !RST!, 11 P3.0/RXD0, 12 CANRXD, 13 P3.1/TXD0, 14 P3.2/!INT0!, 15 P3.3/!INT1!, 16 P3.4/T0, 17 P3.5/T1, 18 P3.6/!WRL!, 19 P3.7/!RD!, 20 XTAL2 (out), 21 XTAL1, 23 44 VDD (power), 24 P2.0/A12D8, 25 P2.1/A13D9, 26 P2.2/A14D10, 27 P2.3/A15D11, 28 P2.4/A16D12, 29 P2.5/A17D13, 30 P2.6/A18D14, 31 P2.7/A19D15, 32 !PSEN! (out), 33 ALE/!PROG!, 34 CANTXD, 35 !EA!/WAIT, 36 P0.7/A11/D7, 37 P0.6/A10D6, 38 P0.5/A9D5, 39 P0.4/A8D4, 40 P0.3/A7D3, 41 P0.2/A6D2, 42 P0.1/A5D1, 43 P0.0/A4D0

## PXAC37KBBD
designator U?, comment XA 16-bit microcontroller family 32K/1024 OTP CAN transport layer controller The XA–C3 is a member of the Philips XA (eXtended Architecture) family of high–performance 16–bit single–chip microcontrollers. The XA–C3 combines an array of standard  peripherals together with a PeliCAN CAN 2.0B engine and unique ”Message Management” hardware to provide integrated support for most CAN Transport Layer (CTL) protocols such as DeviceNet, CANopen and OSEK. For additional details, refer to the XA-C3 Overview on page 35.    AAL Eindhoven MK
footprint SOT389-1
pins: 1 P1.5/SPITX, 2 P1.6/T2/SPICLK, 3 P1.7/T2EX, 4 !RST!, 5 P3.0/RXD0, 6 CANRXD, 7 P3.1/TXD0, 8 P3.2/!INT0!, 9 P3.3/!INT1!, 10 P3.4/T0, 11 P3.5/T1, 12 P3.6/!WRL!, 13 P3.7/!RD!, 14 XTAL2 (out), 15 XTAL1, 16 39 VSS, 17 38 VDD (power), 18 P2.0/A12D8, 19 P2.1/A13D9, 20 P2.2/A14D10, 21 P2.3/A15D11, 22 P2.4/A16D12, 23 P2.5/A17D13, 24 P2.6/A18D14, 25 P2.7/A19D15, 26 !PSEN! (out), 27 ALE/!PROG!, 28 CANTXD, 29 !EA!/WAIT, 30 P0.7/A11/D7, 31 P0.6/A10D6, 32 P0.5/A9D5, 33 P0.4/A8D4, 34 P0.3/A7D3, 35 P0.2/A6D2, 36 P0.1/A5D1, 37 P0.0/A4D0, 40 P1.0/A0/!WRH!, 41 P1.1/A1, 42 P1.2/A2, 43 P1.3/A3, 44 P1.4/SPIRX

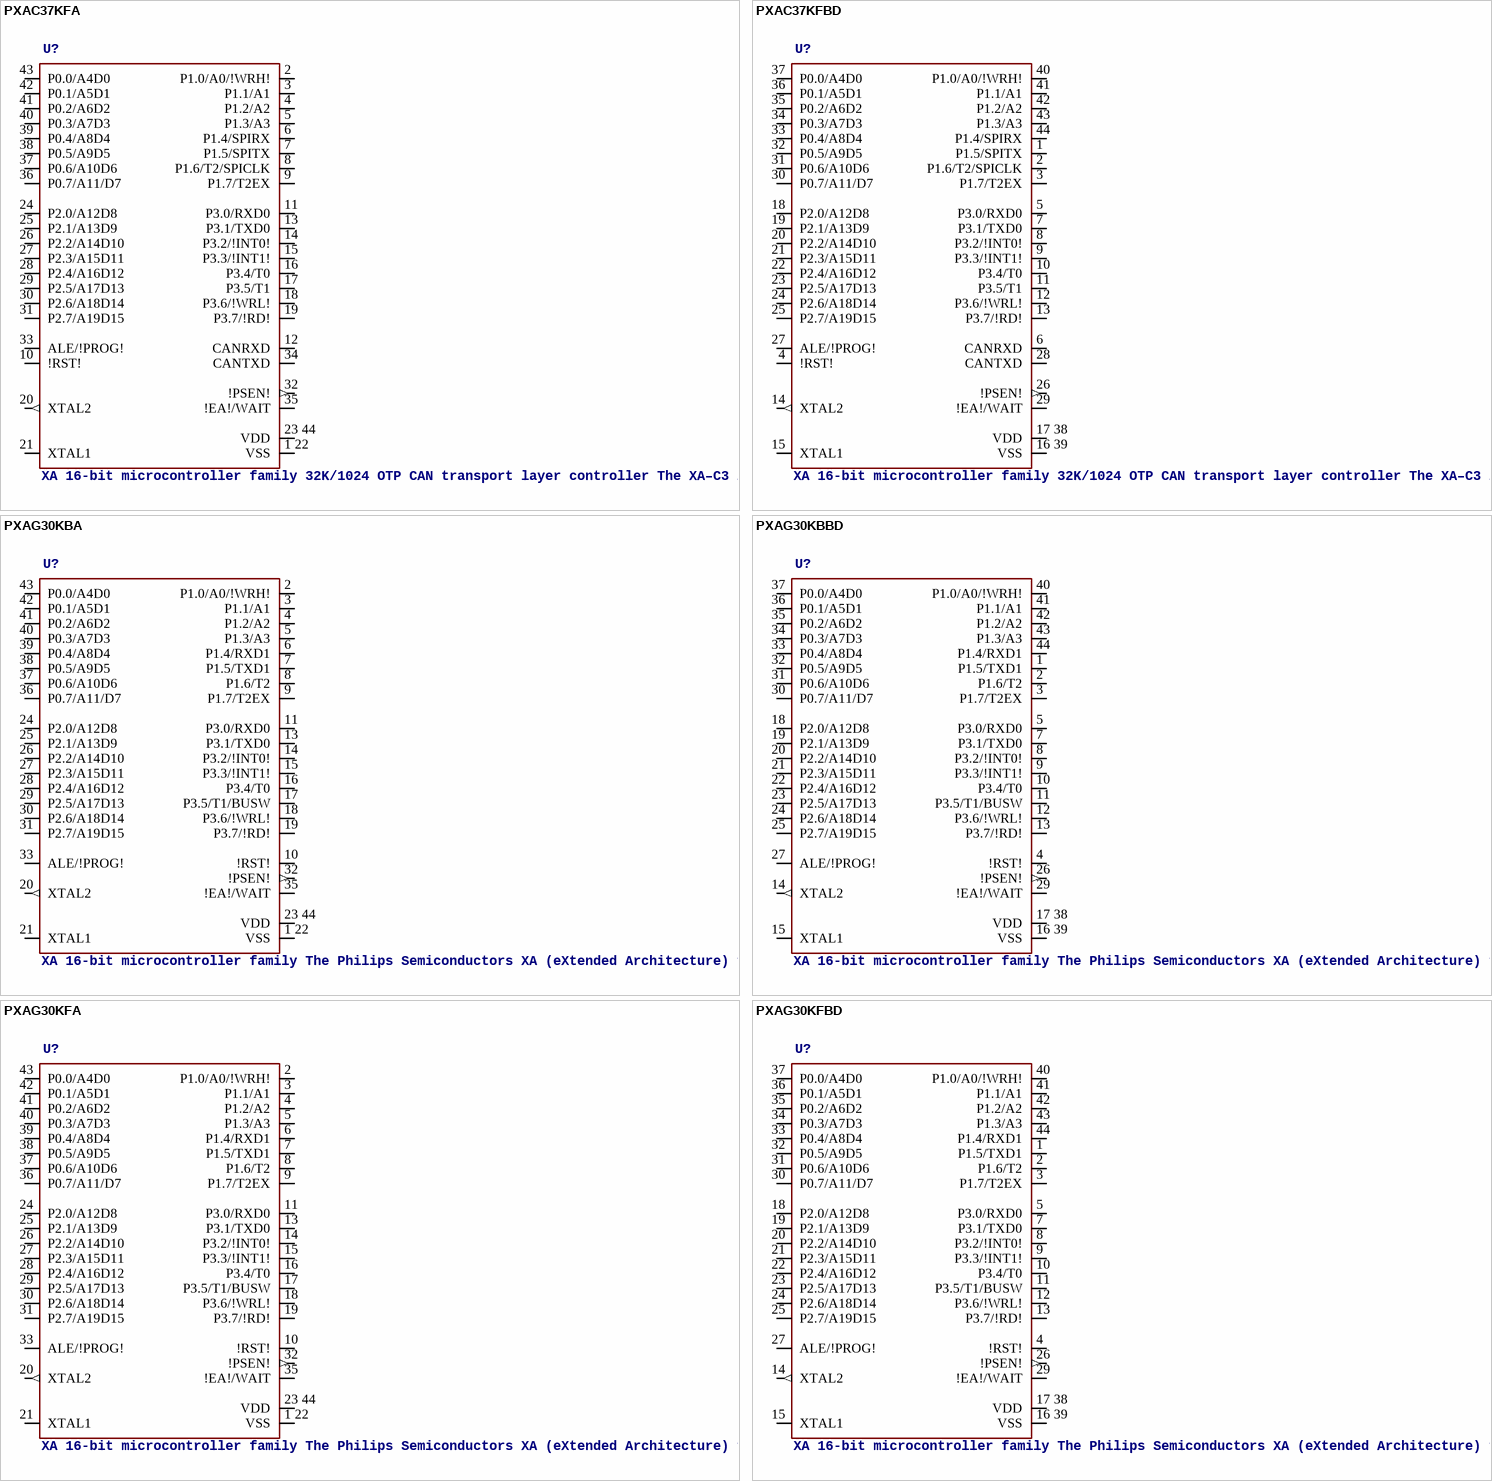
[diagram p174: symbols PXAC37KFA to PXAG30KFBD]

## PXAC37KFA
designator U?, comment XA 16-bit microcontroller family 32K/1024 OTP CAN transport layer controller The XA–C3 is a member of the Philips XA (eXtended Architecture) family of high–performance 16–bit single–chip microcontrollers. The XA–C3 combines an array of standard  peripherals together with a PeliCAN CAN 2.0B engine and unique ”Message Management” hardware to provide integrated support for most CAN Transport Layer (CTL) protocols such as DeviceNet, CANopen and OSEK. For additional details, refer to the XA-C3 Overview on page 35.    AAL Eindhoven MK
footprint SOT187-2
pins: 1 22 VSS, 2 P1.0/A0/!WRH!, 3 P1.1/A1, 4 P1.2/A2, 5 P1.3/A3, 6 P1.4/SPIRX, 7 P1.5/SPITX, 8 P1.6/T2/SPICLK, 9 P1.7/T2EX, 10 !RST!, 11 P3.0/RXD0, 12 CANRXD, 13 P3.1/TXD0, 14 P3.2/!INT0!, 15 P3.3/!INT1!, 16 P3.4/T0, 17 P3.5/T1, 18 P3.6/!WRL!, 19 P3.7/!RD!, 20 XTAL2 (out), 21 XTAL1, 23 44 VDD (power), 24 P2.0/A12D8, 25 P2.1/A13D9, 26 P2.2/A14D10, 27 P2.3/A15D11, 28 P2.4/A16D12, 29 P2.5/A17D13, 30 P2.6/A18D14, 31 P2.7/A19D15, 32 !PSEN! (out), 33 ALE/!PROG!, 34 CANTXD, 35 !EA!/WAIT, 36 P0.7/A11/D7, 37 P0.6/A10D6, 38 P0.5/A9D5, 39 P0.4/A8D4, 40 P0.3/A7D3, 41 P0.2/A6D2, 42 P0.1/A5D1, 43 P0.0/A4D0

## PXAC37KFBD
designator U?, comment XA 16-bit microcontroller family 32K/1024 OTP CAN transport layer controller The XA–C3 is a member of the Philips XA (eXtended Architecture) family of high–performance 16–bit single–chip microcontrollers. The XA–C3 combines an array of standard  peripherals together with a PeliCAN CAN 2.0B engine and unique ”Message Management” hardware to provide integrated support for most CAN Transport Layer (CTL) protocols such as DeviceNet, CANopen and OSEK. For additional details, refer to the XA-C3 Overview on page 35.    AAL Eindhoven MK
footprint SOT389-1
pins: 1 P1.5/SPITX, 2 P1.6/T2/SPICLK, 3 P1.7/T2EX, 4 !RST!, 5 P3.0/RXD0, 6 CANRXD, 7 P3.1/TXD0, 8 P3.2/!INT0!, 9 P3.3/!INT1!, 10 P3.4/T0, 11 P3.5/T1, 12 P3.6/!WRL!, 13 P3.7/!RD!, 14 XTAL2 (out), 15 XTAL1, 16 39 VSS, 17 38 VDD (power), 18 P2.0/A12D8, 19 P2.1/A13D9, 20 P2.2/A14D10, 21 P2.3/A15D11, 22 P2.4/A16D12, 23 P2.5/A17D13, 24 P2.6/A18D14, 25 P2.7/A19D15, 26 !PSEN! (out), 27 ALE/!PROG!, 28 CANTXD, 29 !EA!/WAIT, 30 P0.7/A11/D7, 31 P0.6/A10D6, 32 P0.5/A9D5, 33 P0.4/A8D4, 34 P0.3/A7D3, 35 P0.2/A6D2, 36 P0.1/A5D1, 37 P0.0/A4D0, 40 P1.0/A0/!WRH!, 41 P1.1/A1, 42 P1.2/A2, 43 P1.3/A3, 44 P1.4/SPIRX

## PXAG30KBA
designator U?, comment XA 16-bit microcontroller family The Philips Semiconductors XA (eXtended Architecture) family of 16-bit single-chip microcontrollers is powerful enough to easily handle the requirements of high performance embedded applications, yet inexpensive enough to compete in the market for high-volume, low-cost applications. The XA family provides an upward compatibility path for 80C51 users who need higher performance and 64k or more of program memory. Existing 80C51 code can also easily be translated to run on XA microcontrollers. The performance of the XA architecture supports the comprehensive bit-oriented operations of the 80C51 while incorporating support for multi-tasking operating systems and high-level languages such as C. The speed of the XA architecture, at 10 to 100 times that of the 80C51, gives designers an easy path to truly high performance embedded control.    AAL Eindhoven MK
footprint SOT187-2
pins: 1 22 VSS, 2 P1.0/A0/!WRH!, 3 P1.1/A1, 4 P1.2/A2, 5 P1.3/A3, 6 P1.4/RXD1, 7 P1.5/TXD1, 8 P1.6/T2, 9 P1.7/T2EX, 10 !RST!, 11 P3.0/RXD0, 13 P3.1/TXD0, 14 P3.2/!INT0!, 15 P3.3/!INT1!, 16 P3.4/T0, 17 P3.5/T1/BUSW, 18 P3.6/!WRL!, 19 P3.7/!RD!, 20 XTAL2 (out), 21 XTAL1, 23 44 VDD (power), 24 P2.0/A12D8, 25 P2.1/A13D9, 26 P2.2/A14D10, 27 P2.3/A15D11, 28 P2.4/A16D12, 29 P2.5/A17D13, 30 P2.6/A18D14, 31 P2.7/A19D15, 32 !PSEN! (out), 33 ALE/!PROG!, 35 !EA!/WAIT, 36 P0.7/A11/D7, 37 P0.6/A10D6, 38 P0.5/A9D5, 39 P0.4/A8D4, 40 P0.3/A7D3, 41 P0.2/A6D2, 42 P0.1/A5D1, 43 P0.0/A4D0

## PXAG30KBBD
designator U?, comment XA 16-bit microcontroller family The Philips Semiconductors XA (eXtended Architecture) family of 16-bit single-chip microcontrollers is powerful enough to easily handle the requirements of high performance embedded applications, yet inexpensive enough to compete in the market for high-volume, low-cost applications. The XA family provides an upward compatibility path for 80C51 users who need higher performance and 64k or more of program memory. Existing 80C51 code can also easily be translated to run on XA microcontrollers. The performance of the XA architecture supports the comprehensive bit-oriented operations of the 80C51 while incorporating support for multi-tasking operating systems and high-level languages such as C. The speed of the XA architecture, at 10 to 100 times that of the 80C51, gives designers an easy path to truly high performance embedded control.    AAL Eindhoven MK
footprint SOT389-1
pins: 1 P1.5/TXD1, 2 P1.6/T2, 3 P1.7/T2EX, 4 !RST!, 5 P3.0/RXD0, 7 P3.1/TXD0, 8 P3.2/!INT0!, 9 P3.3/!INT1!, 10 P3.4/T0, 11 P3.5/T1/BUSW, 12 P3.6/!WRL!, 13 P3.7/!RD!, 14 XTAL2 (out), 15 XTAL1, 16 39 VSS, 17 38 VDD (power), 18 P2.0/A12D8, 19 P2.1/A13D9, 20 P2.2/A14D10, 21 P2.3/A15D11, 22 P2.4/A16D12, 23 P2.5/A17D13, 24 P2.6/A18D14, 25 P2.7/A19D15, 26 !PSEN! (out), 27 ALE/!PROG!, 29 !EA!/WAIT, 30 P0.7/A11/D7, 31 P0.6/A10D6, 32 P0.5/A9D5, 33 P0.4/A8D4, 34 P0.3/A7D3, 35 P0.2/A6D2, 36 P0.1/A5D1, 37 P0.0/A4D0, 40 P1.0/A0/!WRH!, 41 P1.1/A1, 42 P1.2/A2, 43 P1.3/A3, 44 P1.4/RXD1

## PXAG30KFA
designator U?, comment XA 16-bit microcontroller family The Philips Semiconductors XA (eXtended Architecture) family of 16-bit single-chip microcontrollers is powerful enough to easily handle the requirements of high performance embedded applications, yet inexpensive enough to compete in the market for high-volume, low-cost applications. The XA family provides an upward compatibility path for 80C51 users who need higher performance and 64k or more of program memory. Existing 80C51 code can also easily be translated to run on XA microcontrollers. The performance of the XA architecture supports the comprehensive bit-oriented operations of the 80C51 while incorporating support for multi-tasking operating systems and high-level languages such as C. The speed of the XA architecture, at 10 to 100 times that of the 80C51, gives designers an easy path to truly high performance embedded control.    AAL Eindhoven MK
footprint SOT187-2
pins: 1 22 VSS, 2 P1.0/A0/!WRH!, 3 P1.1/A1, 4 P1.2/A2, 5 P1.3/A3, 6 P1.4/RXD1, 7 P1.5/TXD1, 8 P1.6/T2, 9 P1.7/T2EX, 10 !RST!, 11 P3.0/RXD0, 13 P3.1/TXD0, 14 P3.2/!INT0!, 15 P3.3/!INT1!, 16 P3.4/T0, 17 P3.5/T1/BUSW, 18 P3.6/!WRL!, 19 P3.7/!RD!, 20 XTAL2 (out), 21 XTAL1, 23 44 VDD (power), 24 P2.0/A12D8, 25 P2.1/A13D9, 26 P2.2/A14D10, 27 P2.3/A15D11, 28 P2.4/A16D12, 29 P2.5/A17D13, 30 P2.6/A18D14, 31 P2.7/A19D15, 32 !PSEN! (out), 33 ALE/!PROG!, 35 !EA!/WAIT, 36 P0.7/A11/D7, 37 P0.6/A10D6, 38 P0.5/A9D5, 39 P0.4/A8D4, 40 P0.3/A7D3, 41 P0.2/A6D2, 42 P0.1/A5D1, 43 P0.0/A4D0

## PXAG30KFBD
designator U?, comment XA 16-bit microcontroller family The Philips Semiconductors XA (eXtended Architecture) family of 16-bit single-chip microcontrollers is powerful enough to easily handle the requirements of high performance embedded applications, yet inexpensive enough to compete in the market for high-volume, low-cost applications. The XA family provides an upward compatibility path for 80C51 users who need higher performance and 64k or more of program memory. Existing 80C51 code can also easily be translated to run on XA microcontrollers. The performance of the XA architecture supports the comprehensive bit-oriented operations of the 80C51 while incorporating support for multi-tasking operating systems and high-level languages such as C. The speed of the XA architecture, at 10 to 100 times that of the 80C51, gives designers an easy path to truly high performance embedded control.    AAL Eindhoven MK
footprint SOT389-1
pins: 1 P1.5/TXD1, 2 P1.6/T2, 3 P1.7/T2EX, 4 !RST!, 5 P3.0/RXD0, 7 P3.1/TXD0, 8 P3.2/!INT0!, 9 P3.3/!INT1!, 10 P3.4/T0, 11 P3.5/T1/BUSW, 12 P3.6/!WRL!, 13 P3.7/!RD!, 14 XTAL2 (out), 15 XTAL1, 16 39 VSS, 17 38 VDD (power), 18 P2.0/A12D8, 19 P2.1/A13D9, 20 P2.2/A14D10, 21 P2.3/A15D11, 22 P2.4/A16D12, 23 P2.5/A17D13, 24 P2.6/A18D14, 25 P2.7/A19D15, 26 !PSEN! (out), 27 ALE/!PROG!, 29 !EA!/WAIT, 30 P0.7/A11/D7, 31 P0.6/A10D6, 32 P0.5/A9D5, 33 P0.4/A8D4, 34 P0.3/A7D3, 35 P0.2/A6D2, 36 P0.1/A5D1, 37 P0.0/A4D0, 40 P1.0/A0/!WRH!, 41 P1.1/A1, 42 P1.2/A2, 43 P1.3/A3, 44 P1.4/RXD1

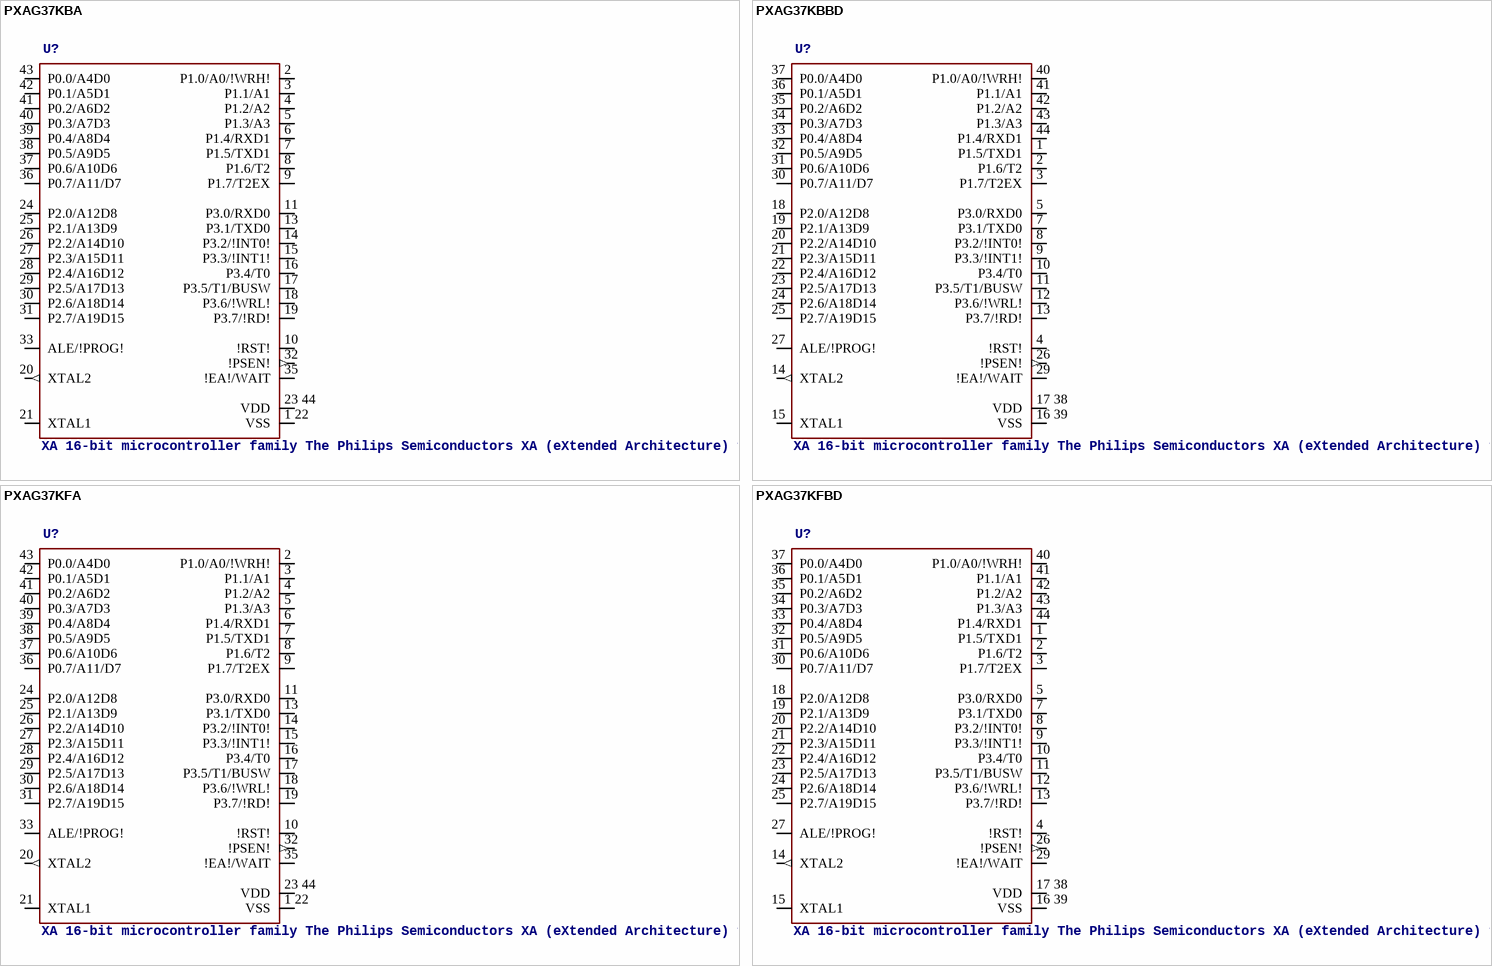
[diagram p175: symbols PXAG37KBA to PXAG37KFBD]

## PXAG37KBA
designator U?, comment XA 16-bit microcontroller family The Philips Semiconductors XA (eXtended Architecture) family of 16-bit single-chip microcontrollers is powerful enough to easily handle the requirements of high performance embedded applications, yet inexpensive enough to compete in the market for high-volume, low-cost applications. The XA family provides an upward compatibility path for 80C51 users who need higher performance and 64k or more of program memory. Existing 80C51 code can also easily be translated to run on XA microcontrollers. The performance of the XA architecture supports the comprehensive bit-oriented operations of the 80C51 while incorporating support for multi-tasking operating systems and high-level languages such as C. The speed of the XA architecture, at 10 to 100 times that of the 80C51, gives designers an easy path to truly high performance embedded control.    AAL Eindhoven MK
footprint SOT187-2
pins: 1 22 VSS, 2 P1.0/A0/!WRH!, 3 P1.1/A1, 4 P1.2/A2, 5 P1.3/A3, 6 P1.4/RXD1, 7 P1.5/TXD1, 8 P1.6/T2, 9 P1.7/T2EX, 10 !RST!, 11 P3.0/RXD0, 13 P3.1/TXD0, 14 P3.2/!INT0!, 15 P3.3/!INT1!, 16 P3.4/T0, 17 P3.5/T1/BUSW, 18 P3.6/!WRL!, 19 P3.7/!RD!, 20 XTAL2 (out), 21 XTAL1, 23 44 VDD (power), 24 P2.0/A12D8, 25 P2.1/A13D9, 26 P2.2/A14D10, 27 P2.3/A15D11, 28 P2.4/A16D12, 29 P2.5/A17D13, 30 P2.6/A18D14, 31 P2.7/A19D15, 32 !PSEN! (out), 33 ALE/!PROG!, 35 !EA!/WAIT, 36 P0.7/A11/D7, 37 P0.6/A10D6, 38 P0.5/A9D5, 39 P0.4/A8D4, 40 P0.3/A7D3, 41 P0.2/A6D2, 42 P0.1/A5D1, 43 P0.0/A4D0

## PXAG37KBBD
designator U?, comment XA 16-bit microcontroller family The Philips Semiconductors XA (eXtended Architecture) family of 16-bit single-chip microcontrollers is powerful enough to easily handle the requirements of high performance embedded applications, yet inexpensive enough to compete in the market for high-volume, low-cost applications. The XA family provides an upward compatibility path for 80C51 users who need higher performance and 64k or more of program memory. Existing 80C51 code can also easily be translated to run on XA microcontrollers. The performance of the XA architecture supports the comprehensive bit-oriented operations of the 80C51 while incorporating support for multi-tasking operating systems and high-level languages such as C. The speed of the XA architecture, at 10 to 100 times that of the 80C51, gives designers an easy path to truly high performance embedded control.    AAL Eindhoven MK
footprint SOT389-1
pins: 1 P1.5/TXD1, 2 P1.6/T2, 3 P1.7/T2EX, 4 !RST!, 5 P3.0/RXD0, 7 P3.1/TXD0, 8 P3.2/!INT0!, 9 P3.3/!INT1!, 10 P3.4/T0, 11 P3.5/T1/BUSW, 12 P3.6/!WRL!, 13 P3.7/!RD!, 14 XTAL2 (out), 15 XTAL1, 16 39 VSS, 17 38 VDD (power), 18 P2.0/A12D8, 19 P2.1/A13D9, 20 P2.2/A14D10, 21 P2.3/A15D11, 22 P2.4/A16D12, 23 P2.5/A17D13, 24 P2.6/A18D14, 25 P2.7/A19D15, 26 !PSEN! (out), 27 ALE/!PROG!, 29 !EA!/WAIT, 30 P0.7/A11/D7, 31 P0.6/A10D6, 32 P0.5/A9D5, 33 P0.4/A8D4, 34 P0.3/A7D3, 35 P0.2/A6D2, 36 P0.1/A5D1, 37 P0.0/A4D0, 40 P1.0/A0/!WRH!, 41 P1.1/A1, 42 P1.2/A2, 43 P1.3/A3, 44 P1.4/RXD1

## PXAG37KFA
designator U?, comment XA 16-bit microcontroller family The Philips Semiconductors XA (eXtended Architecture) family of 16-bit single-chip microcontrollers is powerful enough to easily handle the requirements of high performance embedded applications, yet inexpensive enough to compete in the market for high-volume, low-cost applications. The XA family provides an upward compatibility path for 80C51 users who need higher performance and 64k or more of program memory. Existing 80C51 code can also easily be translated to run on XA microcontrollers. The performance of the XA architecture supports the comprehensive bit-oriented operations of the 80C51 while incorporating support for multi-tasking operating systems and high-level languages such as C. The speed of the XA architecture, at 10 to 100 times that of the 80C51, gives designers an easy path to truly high performance embedded control.    AAL Eindhoven MK
footprint SOT187-2
pins: 1 22 VSS, 2 P1.0/A0/!WRH!, 3 P1.1/A1, 4 P1.2/A2, 5 P1.3/A3, 6 P1.4/RXD1, 7 P1.5/TXD1, 8 P1.6/T2, 9 P1.7/T2EX, 10 !RST!, 11 P3.0/RXD0, 13 P3.1/TXD0, 14 P3.2/!INT0!, 15 P3.3/!INT1!, 16 P3.4/T0, 17 P3.5/T1/BUSW, 18 P3.6/!WRL!, 19 P3.7/!RD!, 20 XTAL2 (out), 21 XTAL1, 23 44 VDD (power), 24 P2.0/A12D8, 25 P2.1/A13D9, 26 P2.2/A14D10, 27 P2.3/A15D11, 28 P2.4/A16D12, 29 P2.5/A17D13, 30 P2.6/A18D14, 31 P2.7/A19D15, 32 !PSEN! (out), 33 ALE/!PROG!, 35 !EA!/WAIT, 36 P0.7/A11/D7, 37 P0.6/A10D6, 38 P0.5/A9D5, 39 P0.4/A8D4, 40 P0.3/A7D3, 41 P0.2/A6D2, 42 P0.1/A5D1, 43 P0.0/A4D0

## PXAG37KFBD
designator U?, comment XA 16-bit microcontroller family The Philips Semiconductors XA (eXtended Architecture) family of 16-bit single-chip microcontrollers is powerful enough to easily handle the requirements of high performance embedded applications, yet inexpensive enough to compete in the market for high-volume, low-cost applications. The XA family provides an upward compatibility path for 80C51 users who need higher performance and 64k or more of program memory. Existing 80C51 code can also easily be translated to run on XA microcontrollers. The performance of the XA architecture supports the comprehensive bit-oriented operations of the 80C51 while incorporating support for multi-tasking operating systems and high-level languages such as C. The speed of the XA architecture, at 10 to 100 times that of the 80C51, gives designers an easy path to truly high performance embedded control.    AAL Eindhoven MK
footprint SOT389-1
pins: 1 P1.5/TXD1, 2 P1.6/T2, 3 P1.7/T2EX, 4 !RST!, 5 P3.0/RXD0, 7 P3.1/TXD0, 8 P3.2/!INT0!, 9 P3.3/!INT1!, 10 P3.4/T0, 11 P3.5/T1/BUSW, 12 P3.6/!WRL!, 13 P3.7/!RD!, 14 XTAL2 (out), 15 XTAL1, 16 39 VSS, 17 38 VDD (power), 18 P2.0/A12D8, 19 P2.1/A13D9, 20 P2.2/A14D10, 21 P2.3/A15D11, 22 P2.4/A16D12, 23 P2.5/A17D13, 24 P2.6/A18D14, 25 P2.7/A19D15, 26 !PSEN! (out), 27 ALE/!PROG!, 29 !EA!/WAIT, 30 P0.7/A11/D7, 31 P0.6/A10D6, 32 P0.5/A9D5, 33 P0.4/A8D4, 34 P0.3/A7D3, 35 P0.2/A6D2, 36 P0.1/A5D1, 37 P0.0/A4D0, 40 P1.0/A0/!WRH!, 41 P1.1/A1, 42 P1.2/A2, 43 P1.3/A3, 44 P1.4/RXD1

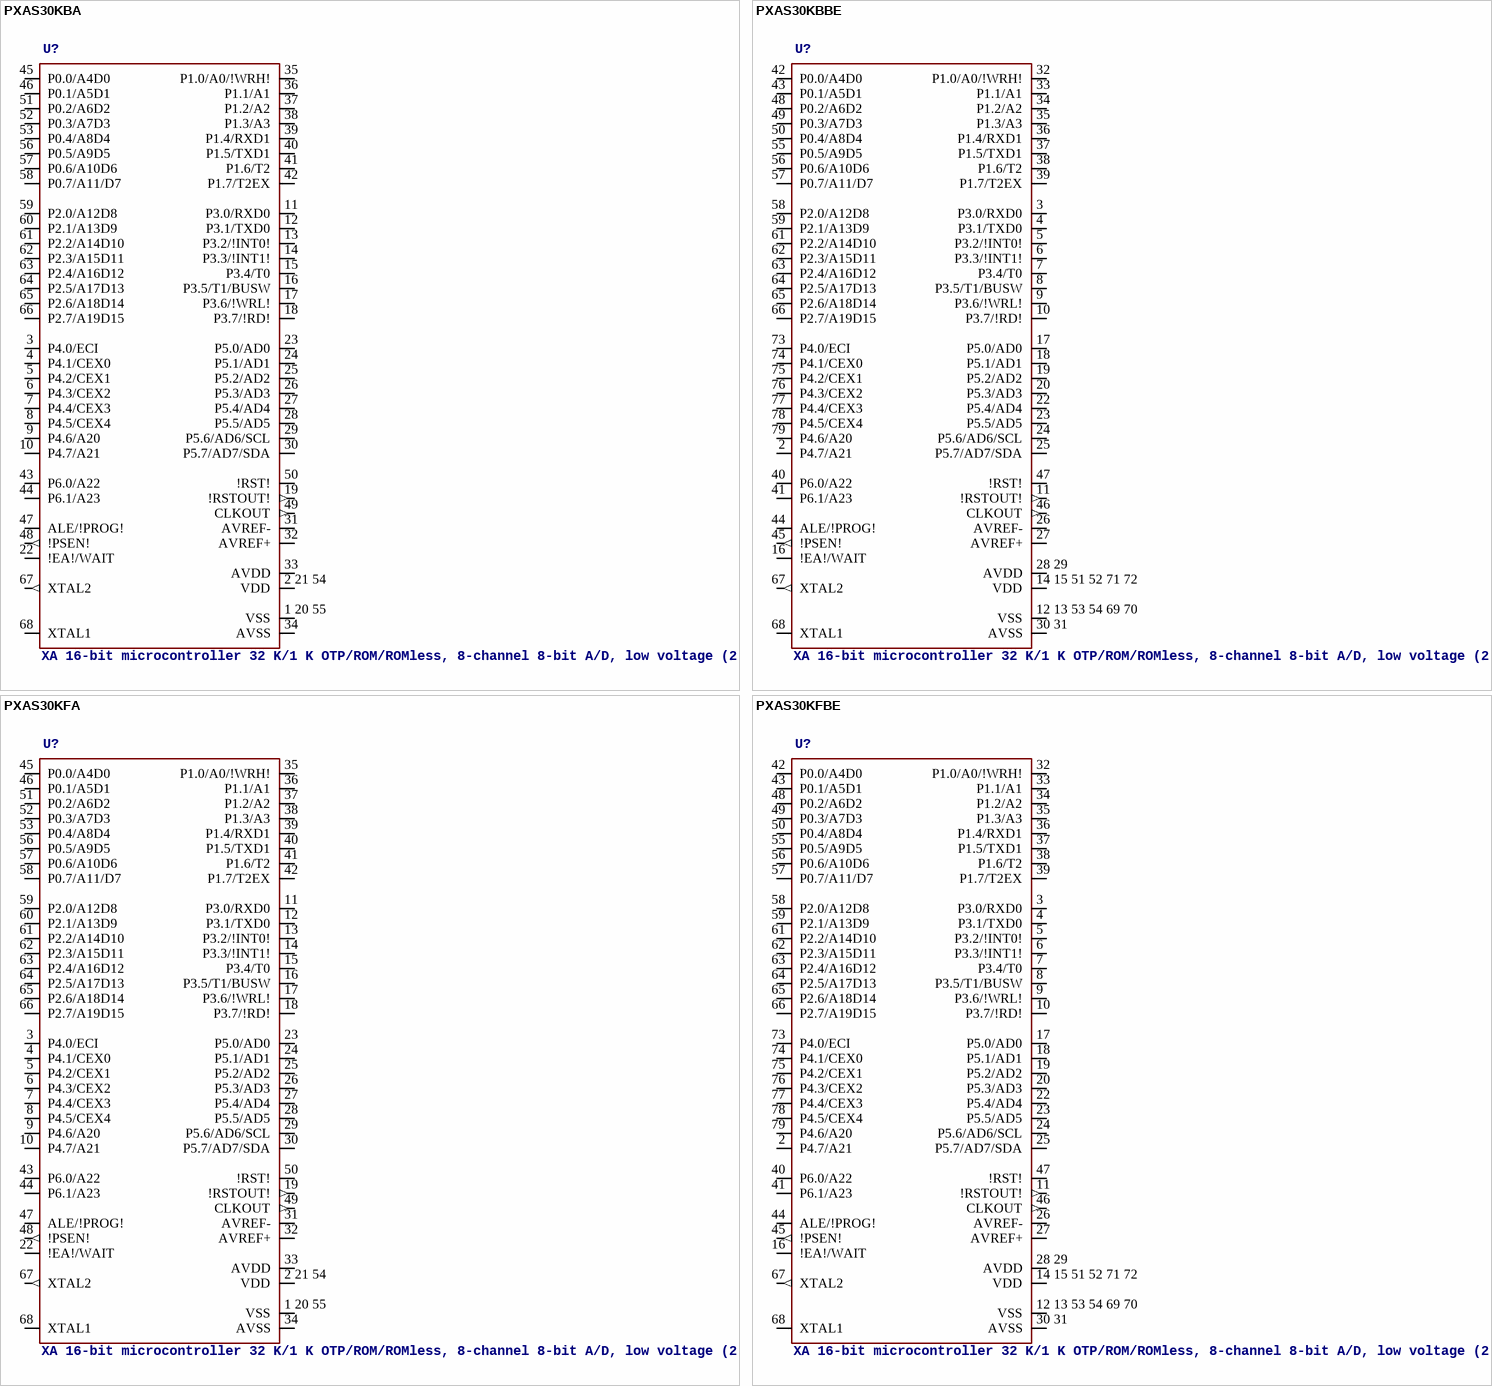
[diagram p176: symbols PXAS30KBA to PXAS30KFBE]